# EAGLE library part 691309510005 (library Wurth_Elektronik_Electromechanic_Terminal_Blocks_Connectors_rev15c)
WR-TBL Serie 3095 - 5.08mm Reversed Gender Horizontal PCB Header , 5 pins=>Code : Con_TBL_Pluggable_5.08_PCB_THT_Simple_H_691309510005 <http://katalog.we-online.de/media/images/eican/Con_TBL_Pluggable_5.08_PCB_THT_Simple_H_6913095100xx_pf2.jpg> Details see: http://katalog.we-online.de/en/em/691_309_510_0xx Created 2014-06-25, Karrer Zheng 2014 (C) Würth Elektronik
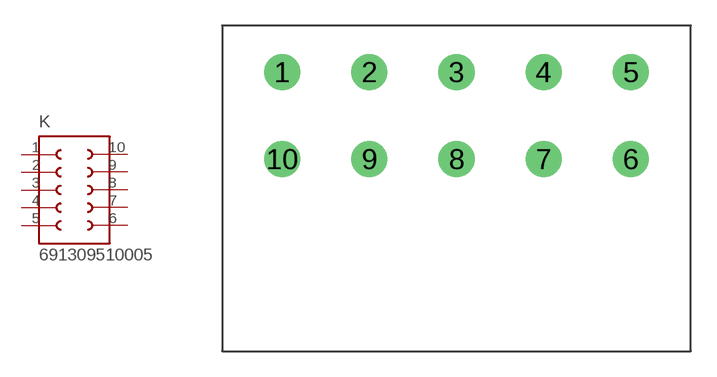
[diagram p178: symbol with the pads of 691309510005; footprint 691309510005]

Designator prefix K

## 691309510005  [691309510005]
1  1  pas
2  2  pas
3  3  pas
4  4  pas
5  5  pas
6  6  pas
7  7  pas
8  8  pas
9  9  pas
10  10  pas

## Footprint 691309510005 (pad centres in mm)
WR-TBL Serie 3075 - 5.08mm Reversed Gender Vertiacal PCB Header , 5 pins
drill 1.4: 1 -20.32,0; 2 -15.24,0; 3 -10.16,0; 4 -5.08,0; 5 0,0; 6 0,-5.08; 7 -5.08,-5.08; 8 -10.16,-5.08; 9 -15.24,-5.08; 10 -20.32,-5.08